# Altium footprint library VL53L5.PcbLib: 1 footprints
Each footprint in its own frame and in the unit in brackets; x right, y up, seen from the top. Pads: shape width x height; smd on the part's side, far side on the other; paste and mask are expansions set on the pad; w line width, h text height; cw(c..) or ccw(c..) is an arc to the next point about the centre after c.
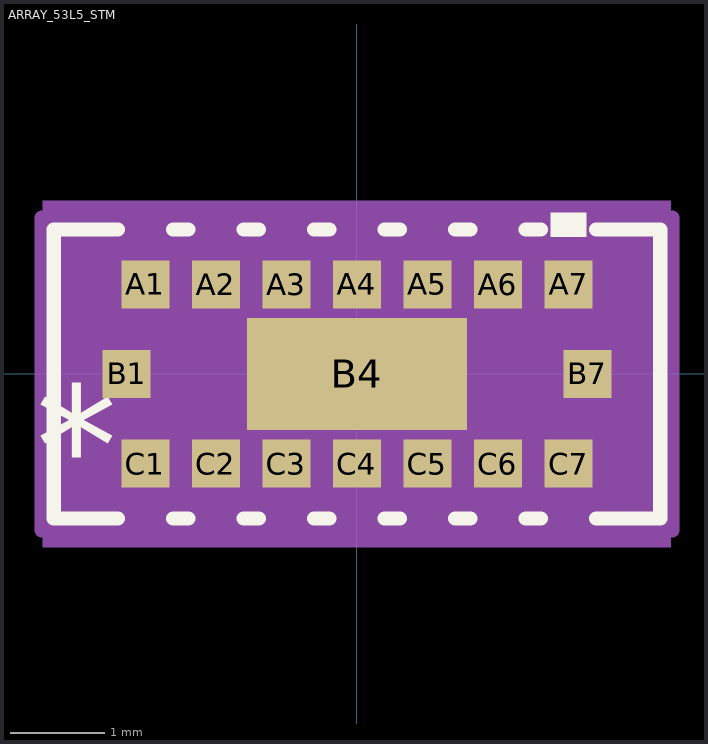
[diagram p0: the footprint, top view; thin cyan lines are the x and y axes]

## ARRAY_53L5_STM [mil]
pads (17):
  rect 20x20 smd paste+0 mask+0: A1(-88.58,37.5) A2(-59.06,37.5) A3(-29.53,37.5) A4(0,37.5) A5(29.53,37.5) A6(59.06,37.5) A7(88.58,37.5) B1(-96.5,0) B7(96.5,0) C1(-88.58,-37.5) C2(-59.06,-37.5) C3(-29.53,-37.5) C4(0,-37.5) C5(29.53,-37.5) C6(59.06,-37.5) C7(88.58,-37.5)
  rect 92x47 smd paste-45.5 mask+0: B4(0,0)
Top Overlay:
  region: 96.08,57.5 81.08,57.5 81.08,67.5 96.08,67.5
  lines w6: -100.2,-60.5 -127,-60.5 -127,60.5 -100.2,60.5 ; -76.97,-60.5 -70.67,-60.5 ; -76.97,60.5 -70.67,60.5 ; -47.44,-60.5 -41.14,-60.5 ; -47.44,60.5 -41.14,60.5 ; -17.91,-60.5 -11.62,-60.5 ; -17.91,60.5 -11.62,60.5 ; 11.62,-60.5 17.91,-60.5 ; 11.62,60.5 17.91,60.5 ; 41.14,-60.5 47.44,-60.5 ; 41.14,60.5 47.44,60.5 ; 70.67,-60.5 76.97,-60.5 ; 70.67,60.5 76.97,60.5 ; 100.2,-60.5 127,-60.5 127,60.5 100.2,60.5
  text "*" at -134.5,-54.53 h50
Mechanical 5:
  region: 131.5,-72.5 -131.5,-72.5 -131.5,72.5 131.5,72.5
Mechanical 13:
  lines w1: -122,-10 -122,10 ; -98.58,-55.5 -78.58,-55.5 ; -98.58,55.5 -78.58,55.5 ; -69.06,-55.5 -49.06,-55.5 ; -69.06,55.5 -49.06,55.5 ; -39.53,-55.5 -19.53,-55.5 ; -39.53,55.5 -19.53,55.5 ; -10,-55.5 10,-55.5 ; -10,55.5 10,55.5 ; 19.53,-55.5 39.53,-55.5 ; 19.53,55.5 39.53,55.5 ; 49.06,-55.5 69.06,-55.5 ; 49.06,55.5 69.06,55.5 ; 78.58,-55.5 98.58,-55.5 ; 78.58,55.5 98.58,55.5 ; 122,-10 122,10 ; -122,-55.5 122,-55.5 122,55.5 -122,55.5 -122,-55.5
  text "*" at -99,-10.24 h50
Mechanical 15:
  region: -108.58,-65.5 -132,-65.5 -132,-20 -132,20 -132,65.5 -108.58,65.5 108.58,65.5 132,65.5 132,20 132,-20 132,-65.5 108.58,-65.5
  lines w6: -132,-65.5 -132,-20 -132,20 -132,65.5 -108.58,65.5 108.58,65.5 132,65.5 132,20 132,-20 132,-65.5 108.58,-65.5 -108.58,-65.5 -132,-65.5
3D body: height 10, standoff 0, extent -125,-60 125,60